# Altium footprint library zhaoyujiu.PcbLib: 24 footprints (part 2 of 2)
Each footprint in its own frame and in the unit in brackets; x right, y up, seen from the top. Pads: shape width x height; smd on the part's side, far side on the other; paste and mask are expansions set on the pad; w line width, h text height; cw(c..) or ccw(c..) is an arc to the next point about the centre after c.
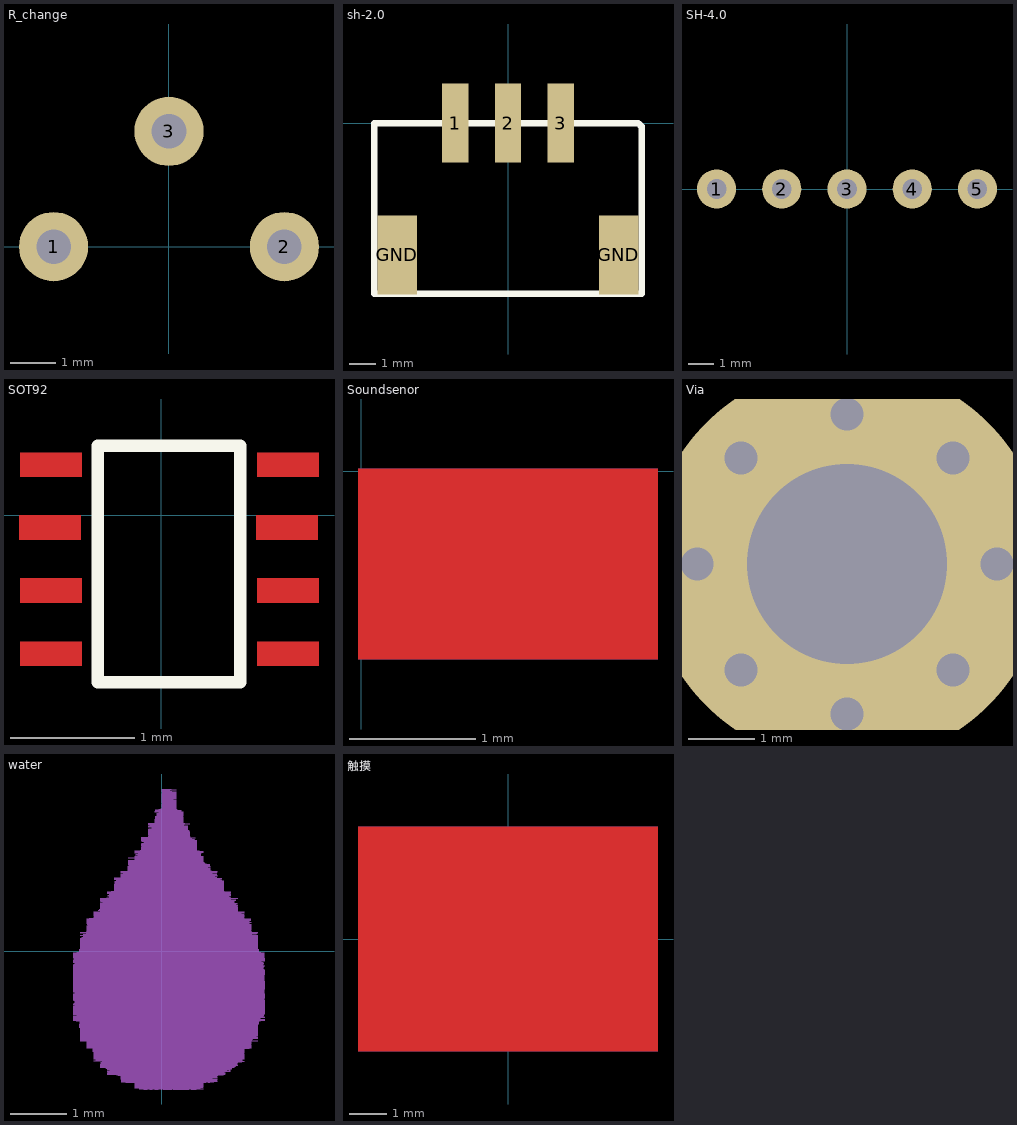
[diagram p1: the footprints below, top view; thin cyan lines are the x and y axes]

## R_change [mil]
pads (3):
  round 60 hole 30: 1(-100,0) 2(100,0) 3(0,100)

## sh-2.0 [mm]
pads (5):
  rect 1x3 smd: 1(-2,0) 2(0,0) 3(2,0)
  rect 1.5x3 smd: GND(-4.2,-5) GND(4.2,-5)
Top Overlay:
  lines w0.254: -5.08,-6.477 5.08,-6.477 5.08,-0.127 4.953,0 -5.08,0 -5.08,-6.477

## SH-4.0 [mil]
pads (5):
  round 60 hole 30: 1(-200,0) 2(-100,0) 3(0,0) 4(100,0) 5(200,0)

## SOT92 [mil]
Top Layer:
  rectangle: 30.32,12 50,19.87
  rectangle: 30,-7.87 49.69,0
  rectangle: 30.32,-27.87 50,-20
  rectangle: 30.32,-47.87 50,-40
  rectangle: -44.69,-47.87 -25,-40
  rectangle: -44.69,-27.87 -25,-20
  rectangle: -45,-7.87 -25.32,0
  rectangle: -44.69,12 -25,19.87
Top Overlay:
  lines w3.94: -20,-53 -20,22 25,22 25,-53 -20,-53

## Soundsenor [mil]
Top Layer:
  rectangle: -1,-59 93,1
Bottom Layer:
  rectangle: -1,-59 93,1

## Via [mil]
via 88.58,0 diameter 39.37 hole 19.68
via 62.64,-62.64 diameter 39.37 hole 19.68
via 0,-88.58 diameter 39.37 hole 19.68
via -62.64,-62.64 diameter 39.37 hole 19.68
via -88.58,0 diameter 39.37 hole 19.68
via 0,88.58 diameter 39.37 hole 19.68
via 62.64,62.64 diameter 39.37 hole 19.68
via -62.64,62.64 diameter 39.37 hole 19.68
via 0,0 diameter 236.22 hole 118.11
Top Solder:
  circle w59.06: c0,0 r88.58
Bottom Solder:
  circle w59.06: c0,0 r88.58

## water [mil]
Bottom Overlay:
  drawing of 744 lines, arcs and shapes, not listed

## 触摸 [mil]
Top Layer:
  rectangle: -157.48,-118.11 157.48,118.11
Bottom Layer:
  rectangle: -157.48,-118.11 157.48,118.11